# EAGLE library part SFW15R-2STE1LF (library JOSHUA)
FPC Connector x15 ( SFW15R-2STE1LF )
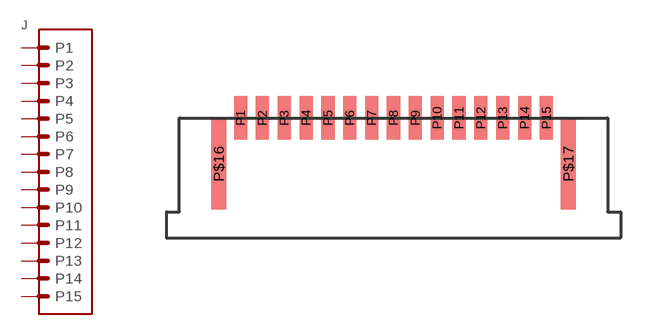
[diagram p6: symbol with the pads of SFW15R-2STE1LF; footprint SFW15R-2STE1LF]

Designator prefix J

## SFW15R-2STE1LF  [SFW15R-2STE1LF]
P1  P1
P2  P2
P3  P3
P4  P4
P5  P5
P6  P6
P7  P7
P8  P8
P9  P9
P10  P10
P11  P11
P12  P12
P13  P13
P14  P14
P15  P15

## Footprint SFW15R-2STE1LF (pad centres in mm)
smd 0.6 x 2: P1 -7,0; P2 -6,0; P3 -5,0; P4 -4,0; P5 -3,0; P6 -2,0; P7 -1,0; P8 0,0; P9 1,0; P10 2,0; P11 3,0; P12 4,0; P13 5,0; P14 6,0; P15 7,0
smd 0.7 x 4.2: P$16 -8,-2.1; P$17 8,-2.1